# EAGLE library part TPS76850(SOIC-8) (library micromouse-board-added-piconnector)
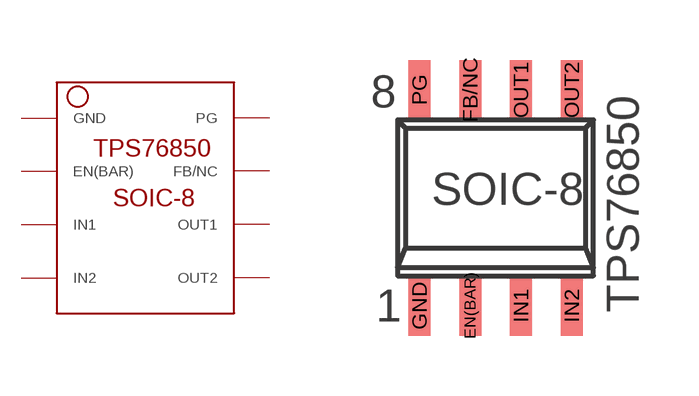
[diagram p3: symbol with the pads of TPS76850(SOIC-8); footprint TPS76850(SOIC-8)]

Designator prefix -

## TPS76850(SOIC-8)  [TPS76850(SOIC-8)]
EN(BAR)  EN(BAR)
FB/NC  FB/NC
GND  GND
IN1  IN1
IN2  IN2
OUT1  OUT1
OUT2  OUT2
PG  PG

## Footprint TPS76850(SOIC-8) (pad centres in mm)
smd 0.55 x 1.5: EN(BAR) -0.635,-2.7; FB/NC -0.635,2.7; GND -1.905,-2.7; IN1 0.635,-2.7; IN2 1.905,-2.7; OUT1 0.635,2.7; OUT2 1.905,2.7; PG -1.905,2.7